# EAGLE library part 74393-? (library ic-74)
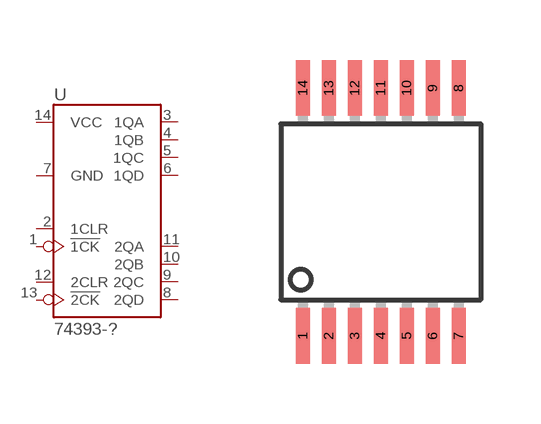
[diagram p3: symbol with the pads of TSSOP14; footprint TSSOP14]

Designator prefix U

## 74393-TSSOP  [TSSOP14]
1  !1CK
2  1CLR
3  1QA
4  1QB
5  1QC
6  1QD
7  GND
8  2QD
9  2QC
10  2QB
11  2QA
12  2CLR
13  !2CK
14  VCC

## Footprint TSSOP14 (pad centres in mm)
smd 0.35 x 1.4: 1 -1.95,-3.1; 2 -1.3,-3.1; 3 -0.65,-3.1; 4 0,-3.1; 5 0.65,-3.1; 6 1.3,-3.1; 7 1.95,-3.1; 8 1.95,3.1; 9 1.3,3.1; 10 0.65,3.1; 11 0,3.1; 12 -0.65,3.1; 13 -1.3,3.1; 14 -1.95,3.1